# Altium schematic symbol library PI3B3251QE.SchLib: 1 symbol
Pins are listed as number, name and electrical type; pins without a type are passive.

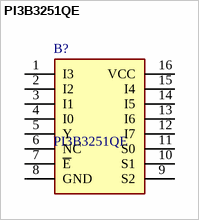
[diagram p0: symbol PI3B3251QE]

## PI3B3251QE
designator B?
Encoders, Decoders, Multiplexers & Demultiplexers 3.3V 8:1 Demux Mux Bus Switch; Manufacturer_Name: Diodes Incorporated; Geometry.Height: 1.2mm; Mouser Part Number: 729-PI3B3251QE; Mouser Price/Stock: https://www.mouser.com/Search/Refine.aspx?Keyword=729-PI3B3251QE; Manufacturer_Part_Number: PI3B3251QE; Datasheet Link: https://componentsearchengine.com/Datasheets/1/PI3B3251QE.pdf
footprint SOP65P640X120-16N
pins: 1 I3, 2 I2, 3 I1, 4 I0, 5 Y, 6 NC, 7 ~{E}, 8 GND, 9 S2, 10 S1, 11 S0, 12 I7, 13 I6, 14 I5, 15 I4, 16 VCC